# Altium schematic symbol library RES,1k2,0.1%,0.063W,0402.Schlib: 1 symbol
Pins are listed as number, name and electrical type; pins without a type are passive.

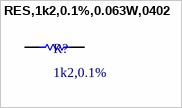
[diagram p0: symbol RES,1k2,0.1%,0.063W,0402]

## RES,1k2,0.1%,0.063W,0402
designator R?, comment 1k2,0.1%
1.2 kOhms ±0.1% 0.1W, 1/10W Chip Resistor 0603 (1608 Metric) Thin Film
pins: 1, 2